# Altium footprint library VioletofSun.PcbLib: 319 footprints (part 9 of 20)
Each footprint in its own frame and in the unit in brackets; x right, y up, seen from the top. Pads: shape width x height; smd on the part's side, far side on the other; paste and mask are expansions set on the pad; w line width, h text height; cw(c..) or ccw(c..) is an arc to the next point about the centre after c.
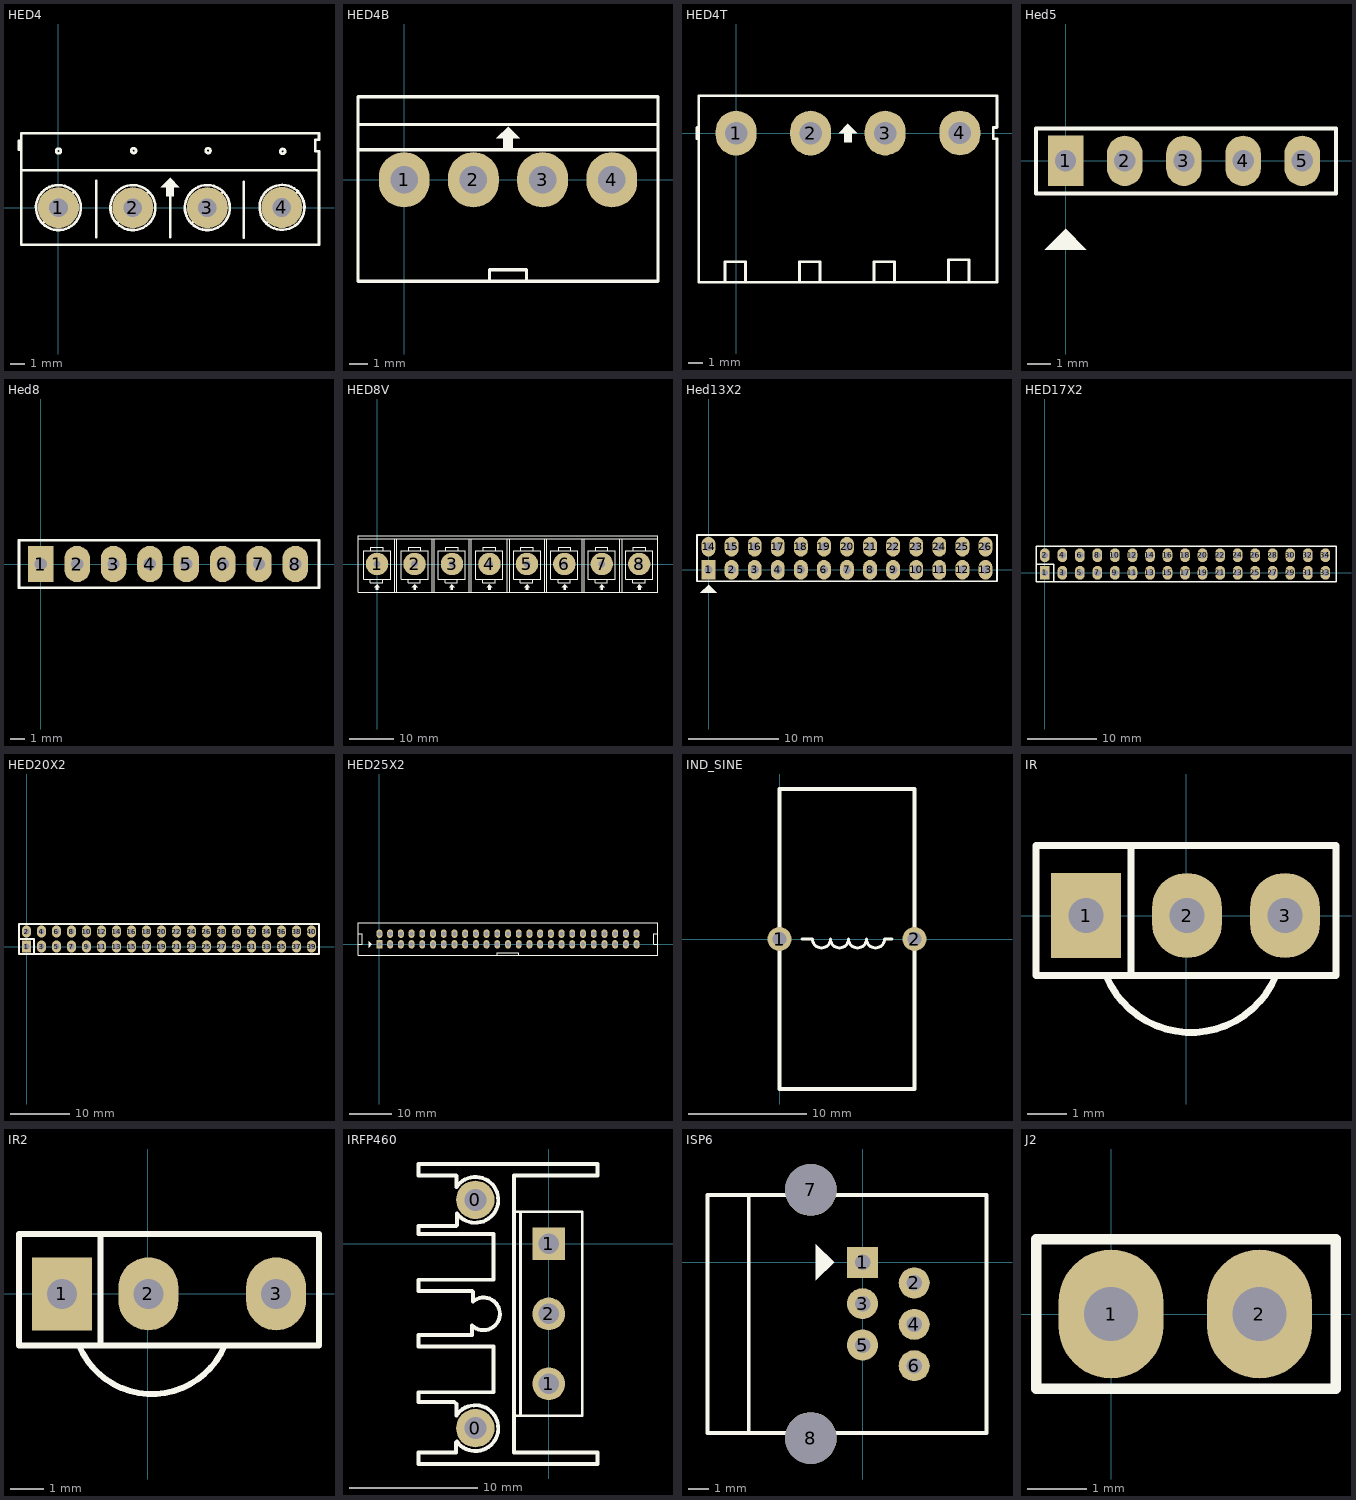
[diagram p8: the footprints below, top view; thin cyan lines are the x and y axes]

## HED4 [mil] "Header 4, 4 pin, hight 300mil, Pin to Pin 200, Colour Green"
height 300
pads (4):
  round 110 hole 50: 1(0,0) 2(200,0) 3(400.06,0.06) 4(600.39,0.39)
Top Overlay:
  circle w7: c202,153 r6.4
  circle w7: c0,152 r6.4
  circle w7: c402,153 r6.4
  circle w7: c602.6,151 r6.4
  region: 300,80 275,55 290,55 290,30 310,30 310,55 325,55
  lines w7: -106,155 -106,180 ; -100,100 700,100 ; -42,-42 43,43 ; 39.04,46.05 ccw(c0,0) 45.18,40.05 ; 102,-79 102,72 ; 158,-42 242.5,42.5 ; 239.76,45.44 ccw(c200,0) 245.18,40.05 ; 300,-79 300,40 ; 358.5,-41.5 442.5,42.5 ; 439.27,45.97 ccw(c400.06,0.06) 445.19,40.17 ; 497.97,-81.03 497.97,69.97 ; 559,-41 643.5,43.5 ; 640.16,46.18 ccw(c600.59,0.59) 646.12,40.23 ; -100,-100 -100,50 -100,200 700,200 700,182 690,182 690,151 700,151 700,-100 -100,-100

## HED4B [mil] "Header 4, 4 pin, hight 300mil, Pin to Pin 150, Colour White"
height 300
pads (4):
  oval 110x120 hole 60: 1(0,0) 2(150,0) 3(300,0) 4(450,0)
Top Overlay:
  region: 225,115 200,90 215,90 215,65 235,65 235,90 250,90
  lines w7: -100,65 550,65 ; -100,120 550,120 ; 185,-215 185,-195 265,-195 265,-215 ; -100,-220 -100,180 550,180 550,-220 -100,-220

## HED4T [mil] "Header 4, 4 pin, hight 300mil, Pin to Pin 200, Colour Green"
height 300
pads (4):
  oval 110x120 hole 60: 1(0,0) 2(200,0) 3(400.06,0.06) 4(600.39,0.39)
Top Overlay:
  region: 300,25 275,0 290,0 290,-25 310,-25 310,0 325,0
  lines w7: -105,-15 -105,15 ; -30,-400 -30,-345 25,-345 25,-400 ; 170,-400 170,-345 225,-345 225,-400 ; 370,-400 370,-345 425,-345 425,-400 ; 570,-395 570,-340 625,-340 625,-395 ; -100,-400 -100,100 700,100 700,15 690,15 690,-15 700,-15 700,-400 -100,-400

## Hed5 [mil] "Header 5, 5 pin, connecter 100mil"
height 300
pads (5):
  rect 60x85 hole 36: 1(0,0)
  oval 60x85 hole 36: 2(100,0) 3(200,0) 4(300,0) 5(400,0)
Top Overlay:
  region: 0,-115 -35,-150 35,-150
  lines w7: -50,-55 457,-55 457,55 -50,55 -50,-55

## Hed8 [mil] "CON8"
height 200
pads (8):
  rect 70x100 hole 34: 1(0,0)
  oval 70x100 hole 34: 2(100,0) 3(200,0) 4(300,0) 5(400,0) 6(500,0) 7(600,0) 8(700,0)
Top Overlay:
  lines w7: -60,-65 -60,65 765,65 765,-65 -60,-65

## HED8V [mil] "Header 6"
height 300
pads (8):
  round 200 hole 60: 1(0,0) 2(333.33,0) 3(666.67,0) 4(1000,0) 5(1333.33,0) 6(1666.67,0) 7(2000,0) 8(2333.33,0)
Top Overlay:
  drawing of 107 lines, arcs and shapes, not listed

## Hed13X2 [mil] "Header 13x2,26 pin, connecter"
pads (26):
  rect 60x85 hole 36: 1(0,0)
  oval 60x85 hole 36: 2(100,0) 3(200,0) 4(300,0) 5(400,0) 6(500,0) 7(600,0) 8(700,0) 9(800,0) 10(900,0) 11(1000,0) 12(1100,0) 13(1200,0) 14(0,100) 15(100,100) 16(200,100) 17(300,100) 18(400,100) 19(500,100) 20(600,100) 21(700,100) 22(800,100) 23(900,100) 24(1000,100) 25(1100,100) 26(1200,100)
Top Overlay:
  region: 0,-65 -35,-100 35,-100
  lines w8: -50,-50 1250,-50 1250,150 -50,150 -50,-50

## HED17X2 [mm]
pads (34):
  rect 1.4x2 hole 1: 1(0,0)
  oval 1.4x2 hole 1: 2(0,2.54) 3(2.54,0) 4(2.54,2.54) 5(5.08,0) 6(5.08,2.54) 7(7.62,0) 8(7.62,2.54) 9(10.16,0) 10(10.16,2.54) 11(12.7,0) 12(12.7,2.54) 13(15.24,0) 14(15.24,2.54) 15(17.78,0) 16(17.78,2.54) 17(20.32,0) 18(20.32,2.54) 19(22.86,0) 20(22.86,2.54) 21(25.4,0) 22(25.4,2.54) 23(27.94,0) 24(27.94,2.54) 25(30.48,0) 26(30.48,2.54) 27(33.02,0) 28(33.02,2.54) 29(35.56,0) 30(35.56,2.54) 31(38.1,0) 32(38.1,2.54) 33(40.64,0) 34(40.64,2.54)
Top Overlay:
  lines w0.203: -1.27,1.27 1.27,1.27 1.27,-1.27 ; -1.27,-1.27 -1.27,3.81 42.189,3.81 42.189,-1.27 -1.27,-1.27

## HED20X2 [mm]
pads (40):
  rect 1.6x2 hole 1: 1(0,0)
  oval 1.6x2 hole 1: 2(0,2.54) 3(2.54,0) 4(2.54,2.54) 5(5.08,0) 6(5.08,2.54) 7(7.62,0) 8(7.62,2.54) 9(10.16,0) 10(10.16,2.54) 11(12.7,0) 12(12.7,2.54) 13(15.24,0) 14(15.24,2.54) 15(17.78,0) 16(17.78,2.54) 17(20.32,0) 18(20.32,2.54) 19(22.86,0) 20(22.86,2.54) 21(25.4,0) 22(25.4,2.54) 23(27.94,0) 24(27.94,2.54) 25(30.48,0) 26(30.48,2.54) 27(33.02,0) 28(33.02,2.54) 29(35.56,0) 30(35.56,2.54) 31(38.1,0) 32(38.1,2.54) 33(40.64,0) 34(40.64,2.54) 35(43.18,0) 36(43.18,2.54) 37(45.72,0) 38(45.72,2.54) 39(48.26,0) 40(48.26,2.54)
Top Overlay:
  lines w0.305: -1.27,1.27 1.27,1.27 1.27,-1.27 ; -1.27,-1.27 -1.27,3.81 49.53,3.81 49.53,-1.27 -1.27,-1.27

## HED25X2 [mm]
pads (50):
  rect 1.4x2 hole 1: 1(0,0)
  oval 1.4x2 hole 1: 2(0,2.54) 3(2.54,0) 4(2.54,2.54) 5(5.08,0) 6(5.08,2.54) 7(7.62,0) 8(7.62,2.54) 9(10.16,0) 10(10.16,2.54) 11(12.7,0) 12(12.7,2.54) 13(15.24,0) 14(15.24,2.54) 15(17.78,0) 16(17.78,2.54) 17(20.32,0) 18(20.32,2.54) 19(22.86,0) 20(22.86,2.54) 21(25.4,0) 22(25.4,2.54) 23(27.94,0) 24(27.94,2.54) 25(30.48,0) 26(30.48,2.54) 27(33.02,0) 28(33.02,2.54) 29(35.56,0) 30(35.56,2.54) 31(38.1,0) 32(38.1,2.54) 33(40.64,0) 34(40.64,2.54) 35(43.18,0) 36(43.18,2.54) 37(45.72,0) 38(45.72,2.54) 39(48.26,0) 40(48.26,2.54) 41(50.8,0) 42(50.8,2.54) 43(53.34,0) 44(53.34,2.54) 45(55.88,0) 46(55.88,2.54) 47(58.42,0) 48(58.42,2.54) 49(60.96,0) 50(60.96,2.54)
Top Overlay:
  region: -2.565,0.749 -2.565,-0.8 -1.778,-0.013
  lines w0.203: -5.055,0.025 -4.089,0.025 -4.089,2.54 -5.055,2.54 ; 27.915,-2.489 27.915,-2.032 33.02,-2.032 33.045,-2.007 33.045,-2.54 ; 66.015,5.08 -5.08,5.08 -5.08,-2.54 66.04,-2.54 66.04,-2.515 66.04,5.08 ; 66.04,0.025 65.075,0.025 65.075,2.54 66.04,2.54

## IND_SINE [mil]
pads (2):
  round 80 hole 47.24: 1(0,0) 2(450,0)
Top Overlay:
  lines w10: 75,0 110,0 ccw(c140,0) 170,0 ccw(c200,0) 230,0 ccw(c260,0) 290,0 ccw(c320,0) 350,0 375,0
  lines w12: 0,-500 450,-500 450,500 0,500 0,0 0,-500

## IR [mil] "Receiver Infared IC"
height 200
pads (3):
  rect 70x85 hole 35: 1(-100,0)
  oval 70x85 hole 35: 2(1,0) 3(99,0)
Top Overlay:
  lines w7: -80,-60 ccw(c5,-25) 90,-60 ; -55,-60 -55,70 ; -150,-60 -150,70 150,70 150,-60 -150,-60

## IR2 [mil] "Receiver Infared IC"
height 200
pads (3):
  rect 70x85 hole 35: 1(-100,0)
  oval 70x85 hole 35: 2(1,0) 3(150,0)
Top Overlay:
  lines w7: -80,-60 ccw(c5,-25) 90,-60 ; -55,-60 -55,70 ; -150,-60 -150,70 200,70 200,-60 -150,-60

## IRFP460 [mm]
pads (5):
  round 3 hole 1.7: 0(-5.715,-14.351) 0(-5.715,3.429)
  round 2.54 hole 1.6: 1(0,-10.9) 2(0,-5.45)
  rect 2.54x2.54 hole 1.6: 1(0,0)
Top Overlay:
  lines w0.2: -2.2,-13.4 -2.2,2.5 ; -2.7,-13.4 2.6,-13.4 2.6,2.5 -2.7,2.5 -2.7,-13.4
  lines w0.305: -2.7,2.159 -2.7,5.334 3.81,5.334 3.81,6.223 -10.16,6.223 -10.16,5.334 -7.239,5.334 -7.198,5.293 -7.198,4.418 cw(c-5.715,3.429) -7.157,2.381 -7.157,1.479 -7.239,1.397 -8.382,1.397 -10.16,1.397 -10.16,0.762 -4.318,0.762 -4.318,-2.794 -10.16,-2.794 -10.16,-3.683 -5.969,-3.683 -5.9,-3.752 -5.9,-4.48 cw(c-5.08,-5.45) -5.972,-6.354 -5.972,-7.109 -5.969,-7.112 -10.16,-7.112 -10.16,-8.001 -4.318,-8.001 -4.318,-11.557 -10.16,-11.557 -10.16,-12.319 -7.366,-12.319 -7.198,-12.487 -7.198,-13.362 cw(c-5.715,-14.351) -7.157,-15.399 -7.239,-15.482 -7.239,-16.256 -10.16,-16.256 -10.16,-17.145 3.81,-17.145 3.81,-16.256 -2.7,-16.256 -2.7,3.048

## ISP6 [mil] "Jac nap PIC"
pads (8):
  rect 60x60 hole 30: 1(0,0)
  round 60 hole 30: 2(100,-40) 3(0,-80) 4(100,-120) 5(0,-160) 6(100,-200)
  round 100 hole 100: 7(-100,140) 8(-100,-340)
Top Overlay:
  region: -55,0 -90,35 -90,-35
  lines w7: -220,-330 -220,130
  lines w8: -300,-330 240,-330 240,130 -300,130 -300,-330

## J2 [mil] "Jum select vdd or gnd"
height 200
pads (2):
  oval 70x86 hole 36: 1(0,0) 2(99,0)
Top Overlay:
  lines w7: -50,-50 -50,50 150,50 150,-50 -50,-50